# EAGLE library part STD043F12X1 (library con-pinheader-standard)
female standard header 2mm, 4.3mm height
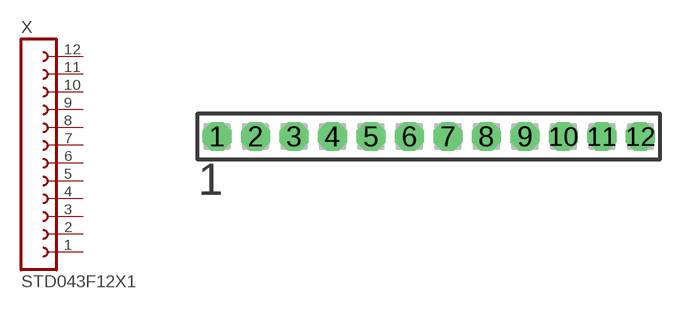
[diagram p6: symbol with the pads of STD043F12X1-2.00; footprint STD043F12X1-2.00]

Designator prefix X

## STD043F12X1-2.00MM (OC_FARNELL: unknown; OC_NEWARK: unknown)  [STD043F12X1-2.00]
1  1  pas
2  2  pas
3  3  pas
4  4  pas
5  5  pas
6  6  pas
7  7  pas
8  8  pas
9  9  pas
10  10  pas
11  11  pas
12  12  pas

## Footprint STD043F12X1-2.00 (pad centres in mm)
female standard header 2mm, 4.3mm height
drill 0.8 pad 1.5 octagon: 1 -11,0; 2 -9,0; 3 -7,0; 4 -5,0; 5 -3,0; 6 -1,0; 7 1,0; 8 3,0; 9 5,0; 10 7,0; 11 9,0; 12 11,0